# Altium footprint library NXP_Footprints.PcbLib: 6 footprints
Each footprint in its own frame and in the unit in brackets; x right, y up, seen from the top. Pads: shape width x height; smd on the part's side, far side on the other; paste and mask are expansions set on the pad; w line width, h text height; cw(c..) or ccw(c..) is an arc to the next point about the centre after c.
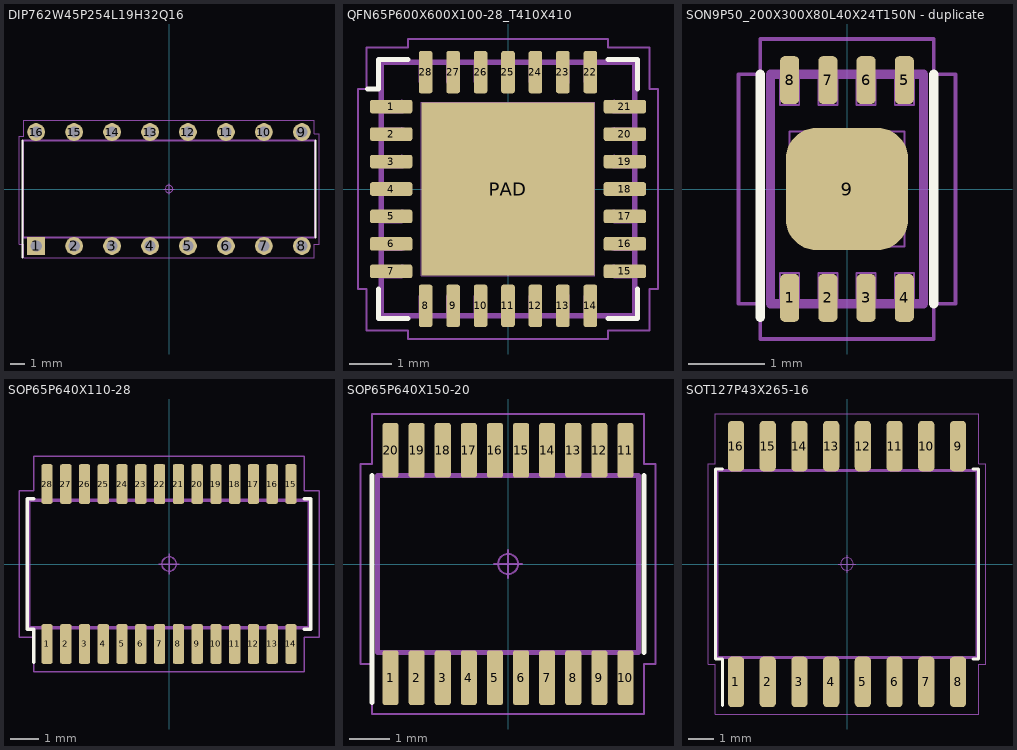
[diagram p0: the footprints below, top view; thin cyan lines are the x and y axes]

## DIP762W45P254L19H32Q16 [mm] "DIP16 IPC-7351C"
height 4.2
pads (16):
  rect 1.19x1.19 hole 0.762: 1(-8.89,-3.81)
  round 1.19 hole 0.762: 2(-6.35,-3.81) 3(-3.81,-3.81) 4(-1.27,-3.81) 5(1.27,-3.81) 6(3.81,-3.81) 7(6.35,-3.81) 8(8.89,-3.81) 9(8.89,3.81) 10(6.35,3.81) 11(3.81,3.81) 12(1.27,3.81) 13(-1.27,3.81) 14(-3.81,3.81) 15(-6.35,3.81) 16(-8.89,3.81)
Top Overlay:
  lines w0.12: -9.81,-4.591 -9.81,3.24 ; 9.81,-3.24 9.81,3.24
Mechanical 11:
  lines w0.12: -9.75,-3.24 -9.75,3.24 9.75,3.24 9.75,-3.24 -9.75,-3.24
Mechanical 12:
  lines w0.025: -9.75,-3.24 9.75,-3.24 9.75,3.24 -9.75,3.24 -9.75,-3.24
Mechanical 15:
  circle w0.05: c0,0 r0.25
  lines w0.05: -0.35,0 0.35,0 ; 0,-0.35 0,0.35 ; -10.035,-3.683 -10.035,3.525 -9.722,3.525 -9.722,4.591 9.722,4.591 9.722,3.683 10.035,3.683 10.035,-3.683 9.722,-3.683 9.722,-4.591 -9.722,-4.591 -9.722,-3.683 -10.035,-3.683
Mechanical 16:
  text "'.Designator'" at 0,0 h1.2
3D body "DIP762W45P254L1950H420Q16.STEP": height 4.2, standoff -2, extent -9.75,-3.957 9.75,3.958

## QFN65P600X600X100-28_T410X410 [mm] "IPC-7351C for HVQFN28"
height 1
pads (29):
  rrect30% 1x0.32 smd: 1(-2.765,1.95) 2(-2.765,1.3) 3(-2.765,0.65) 4(-2.765,0) 5(-2.765,-0.65) 6(-2.765,-1.3) 7(-2.765,-1.95) 15(2.765,-1.95) 16(2.765,-1.3) 17(2.765,-0.65) 18(2.765,0) 19(2.765,0.65) 20(2.765,1.3) 21(2.765,1.95)
  rrect30% 0.32x1 smd: 8(-1.95,-2.765) 9(-1.3,-2.765) 10(-0.65,-2.765) 11(0,-2.765) 12(0.65,-2.765) 13(1.3,-2.765) 14(1.95,-2.765) 22(1.95,2.765) 23(1.3,2.765) 24(0.65,2.765) 25(0,2.765) 26(-0.65,2.765) 27(-1.3,2.765) 28(-1.95,2.765)
  rect 4.1x4.1 smd paste-4.1: PAD(0,0)
Top Overlay:
  lines w0.12: -3.325,2.37 -3.06,2.37 -3.06,3.06 -2.37,3.06 ; -3.06,-2.37 -3.06,-3.06 -2.37,-3.06 ; 2.37,-3.06 3.06,-3.06 3.06,-2.37 ; 2.37,3.06 3.06,3.06 3.06,2.37
Top Paste:
  region: 1.725,-1.75 0.275,-1.75 0.275,-0.3 1.725,-0.3
  region: 1.725,0.3 0.275,0.3 0.275,1.75 1.725,1.75
  region: -0.325,-1.75 -1.775,-1.75 -1.775,-0.3 -0.325,-0.3
  region: -0.325,0.3 -1.775,0.3 -1.775,1.75 -0.325,1.75
Mechanical 11:
  lines w0.12: -3,-3 -3,3 3,3 3,-3 -3,-3
Mechanical 12:
  lines w0.025: -3,-2.1 -2.524,-2.1 ; -3,-1.8 -2.524,-1.8 ; -3,-1.45 -2.524,-1.45 ; -3,-1.15 -2.524,-1.15 ; -3,-0.8 -2.524,-0.8 ; -3,-0.5 -2.524,-0.5 ; -3,-0.15 -2.524,-0.15 ; -3,0.15 -2.524,0.15 ; -3,0.5 -2.524,0.5 ; -3,0.8 -2.524,0.8 ; -3,1.15 -2.524,1.15 ; -3,1.45 -2.524,1.45 ; -3,1.8 -2.524,1.8 ; -3,2.1 -2.524,2.1 ; -2.526,-2.1 ccw(c-2.526,-1.95) -2.526,-1.8 ; -2.525,-1.45 ccw(c-2.525,-1.3) -2.525,-1.15 ; -2.525,-0.8 ccw(c-2.525,-0.65) -2.525,-0.5 ; -2.525,-0.15 ccw(c-2.525,0) -2.525,0.15 ; -2.525,0.5 ccw(c-2.525,0.65) -2.525,0.8 ; -2.525,1.15 ccw(c-2.525,1.3) -2.525,1.45 ; -2.525,1.8 ccw(c-2.525,1.95) -2.525,2.1 ; -2.1,-3 -2.1,-2.524 ; -2.1,-2.525 cw(c-1.95,-2.525) -1.8,-2.525 ; -2.1,2.525 -2.1,3.001 ; -2.1,2.527 ccw(c-1.95,2.527) -1.8,2.527 ; -1.8,-3 -1.8,-2.524 ; -1.8,2.525 -1.8,3.001 ; -1.45,-3 -1.45,-2.524 ; -1.45,-2.525 cw(c-1.3,-2.525) -1.15,-2.525 ; -1.45,2.525 -1.45,3.001 ; -1.45,2.526 ccw(c-1.3,2.526) -1.15,2.526 ; -1.15,-3 -1.15,-2.524 ; -1.15,2.525 -1.15,3.001 ; -0.8,-3 -0.8,-2.524 ; -0.8,-2.525 cw(c-0.65,-2.525) -0.5,-2.525 ; -0.8,2.525 -0.8,3.001 ; -0.8,2.526 ccw(c-0.65,2.526) -0.5,2.526 ; -0.5,-3 -0.5,-2.524 ; -0.5,2.525 -0.5,3.001 ; -0.15,-3 -0.15,-2.524 ; -0.15,-2.525 cw(c0,-2.525) 0.15,-2.525 ; -0.15,2.525 -0.15,3.001 ; -0.15,2.526 ccw(c0,2.526) 0.15,2.526 ; 0.15,-3 0.15,-2.524 ; 0.15,2.525 0.15,3.001 ; 0.5,-3 0.5,-2.524 ; 0.5,-2.525 cw(c0.65,-2.525) 0.8,-2.525 ; 0.5,2.525 0.5,3.001 ; 0.5,2.526 ccw(c0.65,2.526) 0.8,2.526 ; 0.8,-3 0.8,-2.524 ; 0.8,2.525 0.8,3.001 ; 1.15,-3 1.15,-2.524 ; 1.15,-2.525 cw(c1.3,-2.525) 1.45,-2.525 ; 1.15,2.525 1.15,3.001 ; 1.15,2.526 ccw(c1.3,2.526) 1.45,2.526 ; 1.45,-3 1.45,-2.524 ; 1.45,2.525 1.45,3.001 ; 1.8,-3 1.8,-2.524 ; 1.8,-2.526 cw(c1.95,-2.526) 2.1,-2.526 ; 1.8,2.525 1.8,3.001 ; 1.8,2.526 ccw(c1.95,2.526) 2.1,2.526 ; 2.1,-3 2.1,-2.524 ; 2.1,2.525 2.1,3.001 ; 2.524,-2.1 3,-2.1 ; 2.524,-1.8 3,-1.8 ; 2.524,-1.45 3,-1.45 ; 2.524,-1.15 3,-1.15 ; 2.524,-0.8 3,-0.8 ; 2.524,-0.5 3,-0.5 ; 2.524,-0.15 3,-0.15 ; 2.524,0.15 3,0.15 ; 2.524,0.5 3,0.5 ; 2.524,0.8 3,0.8 ; 2.524,1.15 3,1.15 ; 2.524,1.45 3,1.45 ; 2.524,1.8 3,1.8 ; 2.524,2.1 3,2.1 ; 2.525,-2.1 cw(c2.525,-1.95) 2.525,-1.8 ; 2.525,-1.45 cw(c2.525,-1.3) 2.525,-1.15 ; 2.525,-0.8 cw(c2.525,-0.65) 2.525,-0.5 ; 2.525,-0.15 cw(c2.525,0) 2.525,0.15 ; 2.525,0.5 cw(c2.525,0.65) 2.525,0.8 ; 2.525,1.15 cw(c2.525,1.3) 2.525,1.45 ; 2.526,1.8 cw(c2.526,1.95) 2.526,2.1 ; -3,-3 3,-3 3,3 -3,3 -3,-3 ; -2.05,-2.05 -2.05,2.05 2.05,2.05 2.05,-2.05 -2.05,-2.05
Mechanical 15:
  circle w0.05: c0,0 r0.25
  lines w0.05: -0.35,0 0.35,0 ; 0,-0.35 0,0.35 ; -3.55,-2.37 -3.55,2.37 -3.345,2.37 -3.345,3.345 -2.37,3.345 -2.37,3.55 2.37,3.55 2.37,3.345 3.345,3.345 3.345,2.37 3.55,2.37 3.55,-2.37 3.345,-2.37 3.345,-3.345 2.37,-3.345 2.37,-3.55 -2.37,-3.55 -2.37,-3.345 -3.345,-3.345 -3.345,-2.37 -3.55,-2.37
Mechanical 16:
  text "'.Designator'" at 0,0 h1.2
3D body "QFN29P65_600X600X100L62X30T410.STEP": height 1, standoff 0, extent -3.05,-3.05 3.05,3.05

## SON9P50_200X300X80L40X24T150N - duplicate [mm] "Small Outline No-Lead (SON with Tab), 0.50 mm pitch; 8 pin, 2.00 mm L X 3.00 mm W X 0.80 mm H body"
height 0.8
pads (9):
  rrect50% 0.25x0.625 smd: 1(-0.75,-1.425) 2(-0.25,-1.425) 3(0.25,-1.425) 4(0.75,-1.425) 5(0.75,1.425) 6(0.25,1.425) 7(-0.25,1.425) 8(-0.75,1.425)
  rrect50% 1.6x1.6 smd paste-0.5: 9(0,0)
Top Overlay:
  lines w0.12: -1.135,-1.677 -1.135,1.5 ; 1.135,-1.5 1.135,1.5
Mechanical 11:
  lines w0.12: -1,-1.475 -0.975,-1.5 ; -1,-1.5 -1,1.5 1,1.5 1,-1.5 -1,-1.5
Mechanical 12:
  lines w0.025: -0.875,-1.5 -0.875,-1.1 -0.625,-1.1 -0.625,-1.5 ; -0.875,1.5 -0.875,1.1 -0.625,1.1 -0.625,1.5 ; -0.375,-1.5 -0.375,-1.1 -0.125,-1.1 -0.125,-1.5 ; -0.375,1.5 -0.375,1.1 -0.125,1.1 -0.125,1.5 ; 0.125,-1.5 0.125,-1.1 0.375,-1.1 0.375,-1.5 ; 0.125,1.5 0.125,1.1 0.375,1.1 0.375,1.5 ; 0.625,-1.5 0.625,-1.1 0.875,-1.1 0.875,-1.5 ; 0.625,1.5 0.625,1.1 0.875,1.1 0.875,1.5 ; -1,-1.5 -1,1.5 1,1.5 1,-1.5 -1,-1.5 ; -0.75,-0.45 -0.45,-0.75 0.75,-0.75 0.75,0.75 -0.75,0.75 -0.75,-0.45
Mechanical 15:
  circle w0.05: c0,0 r0.25
  lines w0.05: -0.35,0 0.35,0 ; 0,-0.35 0,0.35 ; 1.135,1.95 1.135,1.5 1.42,1.5 1.42,-1.5 1.135,-1.5 1.135,-1.962 -1.135,-1.962 -1.135,-1.5 -1.42,-1.5 -1.42,1.5 -1.135,1.5 -1.135,1.962 1.135,1.962
Mechanical 16:
  text "'.Designator'" at 0,0 h1.2
3D body "SON9P50_200X300X80L40X24T150.STEP": height 0.8, standoff 0, extent -1,-1.55 1,1.55

## SOP65P640X110-28 [mm] "IPC-7351C TSSOP28"
height 1.1
pads (28):
  rrect30% 0.39x1.37 smd: 1(-4.225,-2.77) 2(-3.575,-2.77) 3(-2.925,-2.77) 4(-2.275,-2.77) 5(-1.625,-2.77) 6(-0.975,-2.77) 7(-0.325,-2.77) 8(0.325,-2.77) 9(0.975,-2.77) 10(1.625,-2.77) 11(2.275,-2.77) 12(2.925,-2.77) 13(3.575,-2.77) 14(4.225,-2.77) 15(4.225,2.77) 16(3.575,2.77) 17(2.925,2.77) 18(2.275,2.77) 19(1.625,2.77) 20(0.975,2.77) 21(0.325,2.77) 22(-0.325,2.77) 23(-0.975,2.77) 24(-1.625,2.77) 25(-2.275,2.77) 26(-2.925,2.77) 27(-3.575,2.77) 28(-4.225,2.77)
Top Overlay:
  lines w0.12: -4.68,-3.395 -4.68,-2.26 -4.91,-2.26 -4.91,2.26 -4.68,2.26 ; 4.68,-2.26 4.91,-2.26 4.91,2.26 4.68,2.26
Mechanical 11:
  lines w0.12: -4.85,-2.2 4.85,-2.2 4.85,2.2 -4.85,2.2 -4.85,-2.2
Mechanical 12:
  lines w0.025: -4.85,-2.2 -4.85,2.2 4.85,2.2 4.85,-2.2 -4.85,-2.2 ; -4.347,-3.2 -4.102,-3.2 -4.102,-2.578 -4.347,-2.578 -4.347,-3.2 ; -4.347,2.578 -4.347,3.2 -4.102,3.2 -4.102,2.578 -4.347,2.578 ; -3.697,-3.2 -3.452,-3.2 -3.452,-2.577 -3.697,-2.577 -3.697,-3.2 ; -3.697,2.578 -3.697,3.2 -3.452,3.2 -3.452,2.578 -3.697,2.578 ; -3.047,-3.2 -2.802,-3.2 -2.802,-2.578 -3.047,-2.578 -3.047,-3.2 ; -3.047,2.578 -3.047,3.2 -2.802,3.2 -2.802,2.578 -3.047,2.578 ; -2.397,-3.2 -2.152,-3.2 -2.152,-2.577 -2.397,-2.577 -2.397,-3.2 ; -2.397,2.578 -2.397,3.2 -2.152,3.2 -2.152,2.578 -2.397,2.578 ; -1.747,-3.2 -1.502,-3.2 -1.502,-2.578 -1.747,-2.578 -1.747,-3.2 ; -1.747,2.578 -1.747,3.2 -1.502,3.2 -1.502,2.578 -1.747,2.578 ; -1.097,-3.2 -0.852,-3.2 -0.852,-2.577 -1.097,-2.577 -1.097,-3.2 ; -1.097,2.578 -1.097,3.2 -0.852,3.2 -0.852,2.578 -1.097,2.578 ; -0.447,-3.2 -0.202,-3.2 -0.202,-2.578 -0.447,-2.578 -0.447,-3.2 ; -0.447,2.578 -0.447,3.2 -0.202,3.2 -0.202,2.578 -0.447,2.578 ; 0.203,-3.2 0.448,-3.2 0.448,-2.577 0.203,-2.577 0.203,-3.2 ; 0.203,2.578 0.203,3.2 0.448,3.2 0.448,2.578 0.203,2.578 ; 0.853,-3.2 1.098,-3.2 1.098,-2.578 0.853,-2.578 0.853,-3.2 ; 0.853,2.578 0.853,3.2 1.098,3.2 1.098,2.578 0.853,2.578 ; 1.503,-3.2 1.748,-3.2 1.748,-2.577 1.503,-2.577 1.503,-3.2 ; 1.503,2.578 1.503,3.2 1.748,3.2 1.748,2.578 1.503,2.578 ; 2.153,-3.2 2.398,-3.2 2.398,-2.578 2.153,-2.577 2.153,-3.2 ; 2.153,2.578 2.153,3.2 2.398,3.2 2.398,2.578 2.153,2.578 ; 2.803,-3.2 3.048,-3.2 3.048,-2.577 2.803,-2.577 2.803,-3.2 ; 2.803,2.578 2.803,3.2 3.048,3.2 3.048,2.578 2.803,2.578 ; 3.453,-3.2 3.698,-3.2 3.698,-2.578 3.453,-2.577 3.453,-3.2 ; 3.453,2.578 3.453,3.2 3.698,3.2 3.698,2.578 3.453,2.578 ; 4.103,-3.2 4.348,-3.2 4.348,-2.577 4.103,-2.577 4.103,-3.2 ; 4.103,2.578 4.103,3.2 4.348,3.2 4.348,2.578 4.103,2.578
Mechanical 15:
  circle w0.05: c0,0 r0.25
  lines w0.05: -0.35,0 0.35,0 ; 0,-0.35 0,0.35 ; -5.195,-2.545 -4.68,-2.545 -4.68,-3.74 4.68,-3.74 4.68,-2.545 5.195,-2.545 5.195,2.545 4.68,2.545 4.68,3.74 -4.68,3.74 -4.68,2.545 -5.195,2.545 -5.195,-2.545
Mechanical 16:
  text "'.Designator'" at 0,0 h1.2
3D body "SOP28P65_970X640X110L62X24.STEP": height 1.1, standoff 0, extent -4.85,-3.2 4.85,3.2

## SOP65P640X150-20 [mm] "IPC-7351C"
pads (20):
  rrect30% 0.4x1.36 smd: 1(-2.925,-2.83) 2(-2.275,-2.83) 3(-1.625,-2.83) 4(-0.975,-2.83) 5(-0.325,-2.83) 6(0.325,-2.83) 7(0.975,-2.83) 8(1.625,-2.83) 9(2.275,-2.83) 10(2.925,-2.83) 11(2.925,2.83) 12(2.275,2.83) 13(1.625,2.83) 14(0.975,2.83) 15(0.325,2.83) 16(-0.325,2.83) 17(-0.975,2.83) 18(-1.625,2.83) 19(-2.275,2.83) 20(-2.925,2.83)
Top Overlay:
  lines w0.12: -3.385,-3.45 -3.385,2.2 ; 3.385,-2.2 3.385,2.2
Mechanical 11:
  lines w0.12: -3.25,-2.2 -3.25,2.2 3.25,2.2 3.25,-2.2 -3.25,-2.2
Mechanical 12:
  lines w0.025: -3.25,-2.2 3.25,-2.2 3.25,2.2 -3.25,2.2 -3.25,-2.2 ; -3.055,-3.2 -2.795,-3.2 -2.795,-2.6 -3.055,-2.6 -3.055,-3.2 ; -3.055,2.6 -3.055,3.2 -2.795,3.2 -2.795,2.6 -3.055,2.6 ; -2.405,-3.2 -2.145,-3.2 -2.145,-2.6 -2.405,-2.6 -2.405,-3.2 ; -2.405,2.6 -2.405,3.2 -2.145,3.2 -2.145,2.6 -2.405,2.6 ; -1.755,-3.2 -1.495,-3.2 -1.495,-2.6 -1.755,-2.6 -1.755,-3.2 ; -1.755,2.6 -1.755,3.2 -1.495,3.2 -1.495,2.6 -1.755,2.6 ; -1.105,-3.2 -0.845,-3.2 -0.845,-2.6 -1.105,-2.6 -1.105,-3.2 ; -1.105,2.6 -1.105,3.2 -0.845,3.2 -0.845,2.6 -1.105,2.6 ; -0.455,-3.2 -0.195,-3.2 -0.195,-2.6 -0.455,-2.6 -0.455,-3.2 ; -0.455,2.6 -0.455,3.2 -0.195,3.2 -0.195,2.6 -0.455,2.6 ; 0.195,-3.2 0.455,-3.2 0.455,-2.6 0.195,-2.6 0.195,-3.2 ; 0.195,2.6 0.195,3.2 0.455,3.2 0.455,2.6 0.195,2.6 ; 0.845,-3.2 1.105,-3.2 1.105,-2.6 0.845,-2.6 0.845,-3.2 ; 0.845,2.6 0.845,3.2 1.105,3.2 1.105,2.6 0.845,2.6 ; 1.495,-3.2 1.755,-3.2 1.755,-2.6 1.495,-2.6 1.495,-3.2 ; 1.495,2.6 1.495,3.2 1.755,3.2 1.755,2.6 1.495,2.6 ; 2.145,-3.2 2.405,-3.2 2.405,-2.6 2.145,-2.6 2.145,-3.2 ; 2.145,2.6 2.145,3.2 2.405,3.2 2.405,2.6 2.145,2.6 ; 2.795,-3.2 3.055,-3.2 3.055,-2.6 2.795,-2.6 2.795,-3.2 ; 2.795,2.6 2.795,3.2 3.055,3.2 3.055,2.6 2.795,2.6
Mechanical 15:
  circle w0.05: c0,0 r0.25
  lines w0.05: -0.35,0 0.35,0 ; 0,-0.35 0,0.35 ; -3.67,-2.485 -3.385,-2.485 -3.385,-3.735 3.385,-3.735 3.385,-2.485 3.67,-2.485 3.67,2.485 3.385,2.485 3.385,3.735 -3.385,3.735 -3.385,2.485 -3.67,2.485 -3.67,-2.485
Mechanical 16:
  text "'.Designator'" at 0,0 h1.2
3D body "SOP20P65_650X640X150L60X26.STEP": height 1.5, standoff 0, extent -3.25,-3.2 3.25,3.2

## SOT127P43X265-16 [mm] "SOT162-1"
height 2.65
pads (16):
  rrect49% 0.65x2.02 smd: 1(-4.445,-4.72) 2(-3.175,-4.72) 3(-1.905,-4.72) 4(-0.635,-4.72) 5(0.635,-4.72) 6(1.905,-4.72) 7(3.175,-4.72) 8(4.445,-4.72) 9(4.445,4.72) 10(3.175,4.72) 11(1.905,4.72) 12(0.635,4.72) 13(-0.635,4.72) 14(-1.905,4.72) 15(-3.175,4.72) 16(-4.445,4.72)
Top Overlay:
  lines w0.12: -4.982,-5.67 -4.982,-3.81 -5.262,-3.81 -5.262,3.81 -4.982,3.81 ; 5.041,-3.81 5.261,-3.81 5.261,3.81 5.041,3.81
Mechanical 11:
  lines w0.12: -5.202,-3.75 -5.202,3.75 5.201,3.75 5.201,-3.75 -5.202,-3.75
Mechanical 12:
  lines w0.025: -5.202,-3.75 -5.202,3.75 5.201,3.75 5.201,-3.75 -5.202,-3.75 ; -4.658,-5.15 -4.658,-4.4 -4.233,-4.4 -4.233,-5.15 -4.658,-5.15 ; -4.658,4.4 -4.658,5.15 -4.233,5.15 -4.233,4.4 -4.658,4.4 ; -3.388,-5.15 -3.388,-4.4 -2.963,-4.4 -2.963,-5.15 -3.388,-5.15 ; -3.388,4.4 -3.388,5.15 -2.963,5.15 -2.963,4.4 -3.388,4.4 ; -2.118,-5.15 -2.118,-4.4 -1.693,-4.4 -1.693,-5.15 -2.118,-5.15 ; -2.118,4.4 -2.118,5.15 -1.693,5.15 -1.693,4.4 -2.118,4.4 ; -0.848,-5.15 -0.848,-4.4 -0.423,-4.4 -0.423,-5.15 -0.848,-5.15 ; -0.848,4.4 -0.848,5.15 -0.423,5.15 -0.423,4.4 -0.848,4.4 ; 0.422,-5.15 0.422,-4.4 0.847,-4.4 0.847,-5.15 0.422,-5.15 ; 0.422,4.4 0.422,5.15 0.847,5.15 0.847,4.4 0.422,4.4 ; 1.692,-5.15 1.692,-4.4 2.117,-4.4 2.117,-5.15 1.692,-5.15 ; 1.692,4.4 1.692,5.15 2.117,5.15 2.117,4.4 1.692,4.4 ; 2.962,-5.15 2.962,-4.4 3.387,-4.4 3.387,-5.15 2.962,-5.15 ; 2.962,4.4 2.962,5.15 3.387,5.15 3.387,4.4 2.962,4.4 ; 4.232,-5.15 4.232,-4.4 4.657,-4.4 4.657,-5.15 4.232,-5.15 ; 4.232,4.4 4.232,5.15 4.657,5.15 4.657,4.4 4.232,4.4
Mechanical 15:
  circle w0.05: c0,0 r0.25
  lines w0.05: -0.35,0 0.35,0 ; 0,-0.35 0,0.35 ; -5.547,-4.01 -5.547,4.01 -5.267,4.01 -5.267,6.006 -4.7,6.006 4.8,6.006 5.267,6.006 5.267,4.01 5.547,4.01 5.547,-4.01 5.267,-4.01 5.267,-6.006 4.6,-6.006 -4.7,-6.006 -5.267,-6.006 -5.267,-4.01 -5.547,-4.01
Mechanical 16:
  text "'.Designator'" at 0,0 h1.2
3D body "SOIC16P127_1030X1032X265L75X42.STEP": height 2.65, standoff 0, extent -5.15,-5.162 5.15,5.163